# Altium schematic symbol library RN73H1JTTD7061F100.SchLib: 1 symbol
Pins are listed as number, name and electrical type; pins without a type are passive.

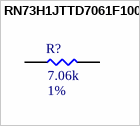
[diagram p0: symbol RN73H1JTTD7061F100]

## RN73H1JTTD7061F100
designator R?  Resistance: 7.06k  Tolerance: 1%  (hidden comment: RN73H1JTTD7061F100)
RES 7.06K OHM 1% 1/10W 0603; MFR: KOA Speer Electronics, Inc.; PN: RN73H1JTTD7061F100; Footprint: RES0603; Package: 0603; ComponentLink1Description: Datasheet; ComponentLink1URL: https://www.mouser.ca/datasheet/2/219/RN73H-1843478.pdf; Power Rating: 1/10W; Supplier 1: Mouser; Supplier Part Number 1: 660-RN73H1JT7061F100
footprint RES0603 (Generic 0603)
pins: 1, 2